# Altium schematic symbol library Header_Harwin_ M22-2510605 _6POS.SchLib: 1 symbol
Pins are listed as number, name and electrical type; pins without a type are passive.

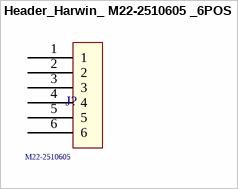
[diagram p0: symbol Header_Harwin_ M22-2510605 _6POS]

## Header_Harwin_ M22-2510605 _6POS
designator J?  Series: M22-2510605  (hidden comment: Header_Harwin_ M22-2510605 _6POS)
Headers & Wire Housings 6 WAY SIL VERT PC TAIL P/HDR; Supplier 1: Mouser; Supplier Part Number 1: 855-M22-2510605
footprint Header_Harwin_ M22-2510605 _6POS
pins: 1, 2, 3, 4, 5, 6